# EAGLE library part TMC21* (library trinamic)
Universal high voltage driver for two-phase bipolar stepper motor. StealthChop? for quiet movement. Integrated MOSFETs for up to 2.0A motor current per coil. With Step/Dir Interface and SPI
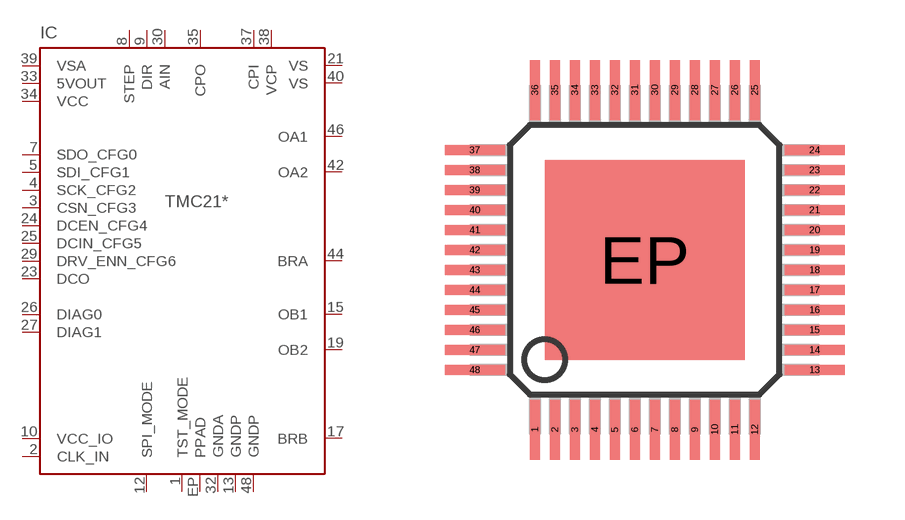
[diagram p0: symbol with the pads of TQFP48; footprint TQFP48]

Designator prefix IC

## TMC2100TA, TMC2130TA  [TQFP48]
1  TST_MODE  pwr
2  CLK_IN  in
3  CSN_CFG3  pas
4  SCK_CFG2  pas
5  SDI_CFG1  pas
7  SDO_CFG0  pas
8  STEP  in
9  DIR  in
10  VCC_IO  pwr
12  SPI_MODE  pas
13  GNDP  pwr
15  OB1  pas
17  BRB  pas
19  OB2  pas
21  VS  pwr
23  DCO  out
24  DCEN_CFG4  pas
25  DCIN_CFG5  pas
26  DIAG0  oc
27  DIAG1  oc
29  DRV_ENN_CFG6  pas
30  AIN  pas
32  GNDA  pwr
33  5VOUT  pwr
34  VCC  pwr
35  CPO  pas
37  CPI  pas
38  VCP  pas
39  VSA  pwr
40  VS  pwr
42  OA2  pas
44  BRA  pas
46  OA1  pas
48  GNDP  pwr
EP  PPAD  pwr

## Footprint TQFP48 (pad centres in mm)
Thin Quad Flat Pack
smd 0.25 x 1.5: 1 -2.75,-4.25; 2 -2.25,-4.25; 3 -1.75,-4.25; 4 -1.25,-4.25; 5 -0.75,-4.25; 6 -0.25,-4.25; 7 0.25,-4.25; 8 0.75,-4.25; 9 1.25,-4.25; 10 1.75,-4.25; 11 2.25,-4.25; 12 2.75,-4.25; 25 2.75,4.25; 26 2.25,4.25; 27 1.75,4.25; 28 1.25,4.25; 29 0.75,4.25; 30 0.25,4.25; 31 -0.25,4.25; 32 -0.75,4.25; 33 -1.25,4.25; 34 -1.75,4.25; 35 -2.25,4.25; 36 -2.75,4.25
smd 1.5 x 0.25: 13 4.25,-2.75; 14 4.25,-2.25; 15 4.25,-1.75; 16 4.25,-1.25; 17 4.25,-0.75; 18 4.25,-0.25; 19 4.25,0.25; 20 4.25,0.75; 21 4.25,1.25; 22 4.25,1.75; 23 4.25,2.25; 24 4.25,2.75; 37 -4.25,2.75; 38 -4.25,2.25; 39 -4.25,1.75; 40 -4.25,1.25; 41 -4.25,0.75; 42 -4.25,0.25; 43 -4.25,-0.25; 44 -4.25,-0.75; 45 -4.25,-1.25; 46 -4.25,-1.75; 47 -4.25,-2.25; 48 -4.25,-2.75
smd 5 x 5: EP 0,0